# Altium schematic symbol library KOMM1 (лист1 и лист2).SchLib: 55 symbols
Pins are listed as number, name and electrical type; pins without a type are passive.

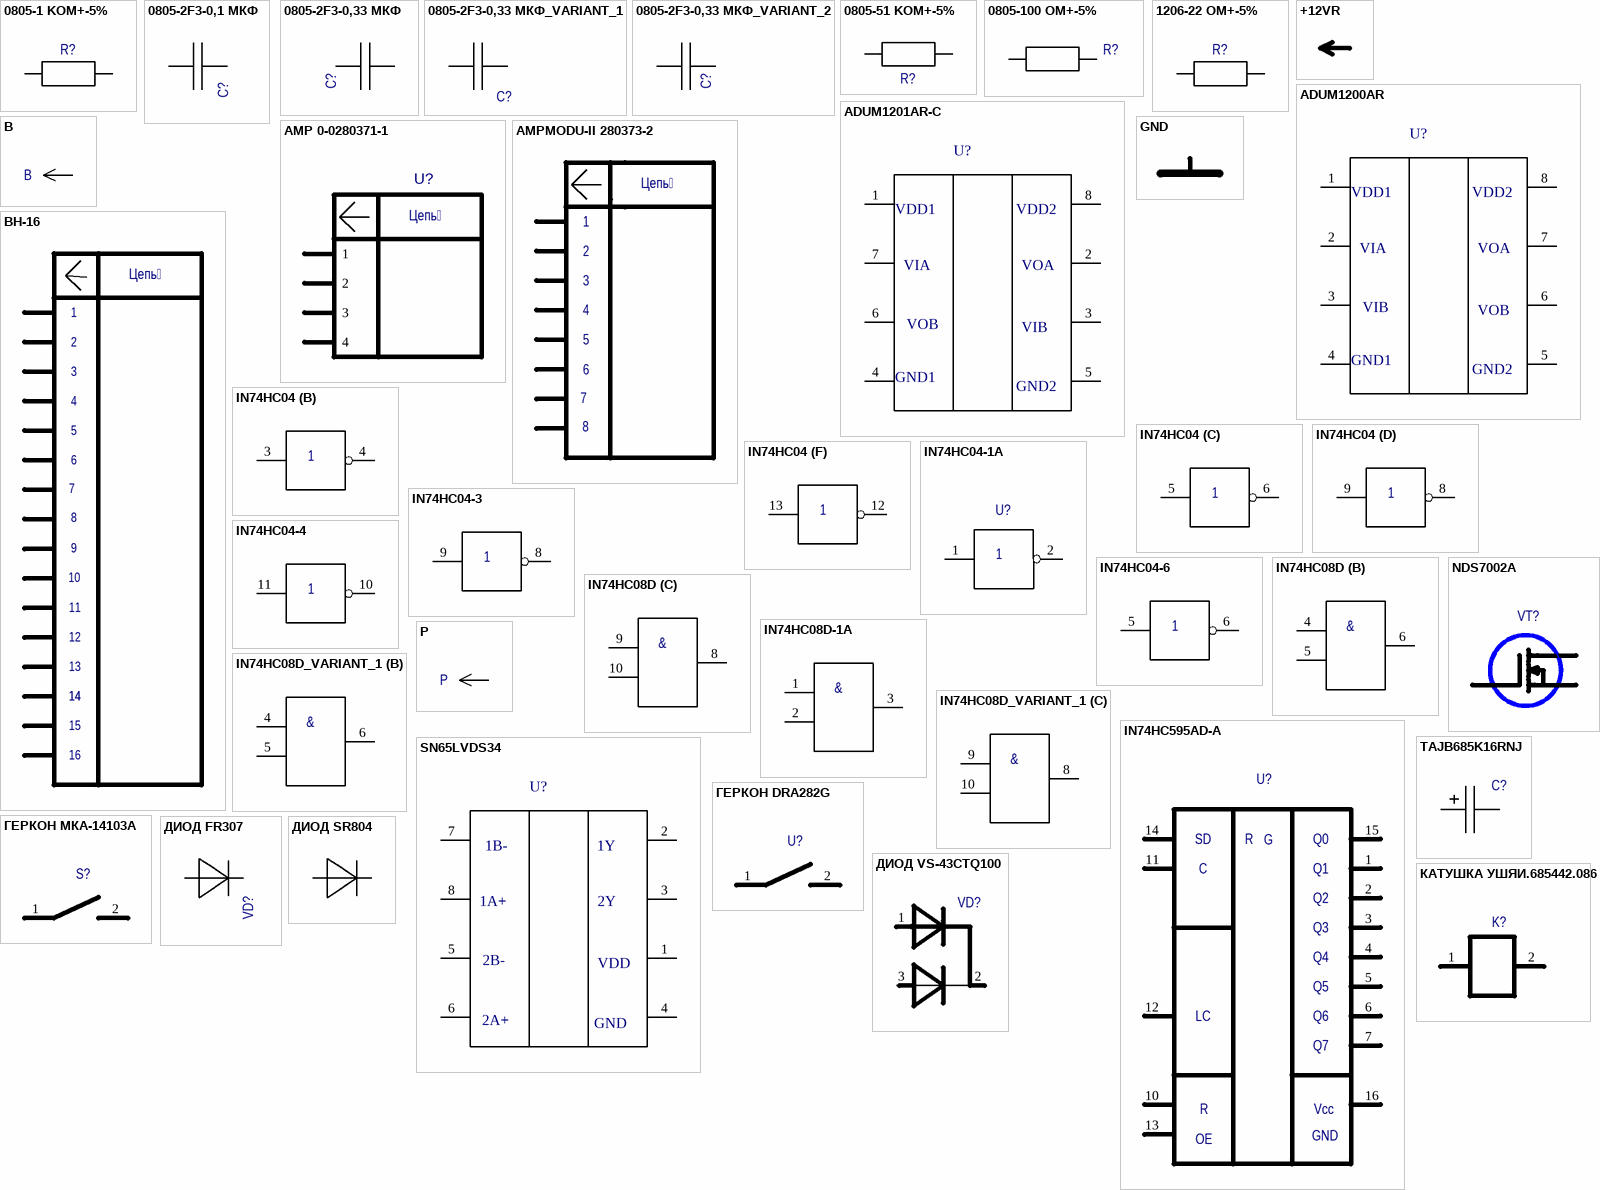
[diagram p0: symbols 0805-1 KОМ+-5% to КАТУШКА УШЯИ.685442.086]

## 0805-1 KОМ+-5%
designator R?  (value not drawn)
Value: *
footprint 0805
pins: 1, 2

## 0805-2F3-0,1 МКФ
designator C?  (value not drawn)
Value: *
footprint 0805
pins: 1, 2

## 0805-2F3-0,33 МКФ
designator C?  (value not drawn)
Value: *
footprint 0805
pins: 1, 2

## 0805-2F3-0,33 МКФ_VARIANT_1
designator C?, comment 0805-2F3-0,33 МКФ  (value not drawn)
0805-2F3-0,33 МКФ_VARIANT_1; Value: *
footprint 0805
pins: 1, 2

## 0805-2F3-0,33 МКФ_VARIANT_2
designator C?, comment 0805-2F3-0,33 МКФ  (value not drawn)
0805-2F3-0,33 МКФ_VARIANT_2; Value: *
footprint 0805
pins: 1, 2

## 0805-51 KОМ+-5%
designator R?  (value not drawn)
Value: *
footprint 0805
pins: 1, 2

## 0805-100 ОМ+-5%
designator R?  (value not drawn)
Value: *
footprint 0805
pins: 1, 2

## 1206-22 ОМ+-5%
designator R?  (value not drawn)
Value: *
footprint 1206
pins: 1, 2

## +12VR
designator PWR?  (value not drawn)
Value: *
pins: 1 +12VR (power)

## ADUM1200AR
designator U?  (value not drawn)
Value: *
pins: 1 0, 2, 3 2, 4 3, 5 4, 6 5, 7 6, 8 7
text: VDD1; VDD2; VIA; VOA; VIB; VOB; GND1; GND2

## ADUM1201AR-C
designator U?  (value not drawn)
Value: *
pins: 1 0, 2 6, 3 5, 4 3, 5 4, 6 2, 7 1, 8 7
text: VDD1; VDD2; VIA; VOA; VOB; VIB; GND1; GND2

## AMP 0-0280371-1
designator U?  (value not drawn)
Value: *
pins: 1, 2, 3, 4
text: Цепь

## AMPMODU-II 280373-2
designator XP?  (value not drawn)
Value: *
pins: 1, 2, 3, 4, 5, 6, 7, 8
text: Цепь

## B
designator U?
Value: *
pins: 1

## BH-16
designator XP?  (value not drawn)
Value: *
footprint BH-16
pins: 1, 2, 3, 4, 5, 6, 7, 8, 9, 10, 11, 12, 13, 14, 15, 16
text: Цепь

## GND
designator PWR?  (value not drawn)
Value: *
pins: 0 GND (power)

## IN74HC04
designator DD?  (value not drawn)
Value: *
footprint SO-14
part B pins: 3, 4
part C pins: 5, 6
part D pins: 8, 9
part F pins: 12, 13
part B text: 1
part C text: 1
part D text: 1
part F text: 1

## IN74HC04-1A
designator U?  (value not drawn)
Value: *
pins: 1, 2

## IN74HC04-3
designator U?  (value not drawn)
Value: *
pins: 8 4, 9 3
text: 1

## IN74HC04-4
designator U?  (value not drawn)
Value: *
pins: 10 4, 11 3
text: 1

## IN74HC04-6
designator U?  (value not drawn)
Value: *
pins: 5 3, 6 4
text: 1

## IN74HC08D
designator DD?  (value not drawn)
Value: *
footprint SO-14
part B pins: 4, 5, 6
part C pins: 8, 9, 10
part B text: &
part C text: &

## IN74HC08D-1A
designator U?  (value not drawn)
Value: *
pins: 1, 2, 3
text: &

## IN74HC08D_VARIANT_1
designator DD?, comment IN74HC08D  (value not drawn)
IN74HC08D_VARIANT_1; Value: *
footprint SO-14
part B pins: 4, 5, 6
part C pins: 8, 9, 10
part B text: &
part C text: &

## IN74HC595AD-A
designator U?  (value not drawn)
Value: *
pins: 1 Q1, 2 Q2, 3 Q4, 4 Q4, 5 Q5, 6 Q6, 7 Q7, 10, 11 C, 12 LC, 13, 14 SD, 15 Q0, 16
text: R; G; Q3; Vcc; OE; GND

## NDS7002A
designator VT?  (value not drawn)
Value: *
footprint SOT-23
pins: B 0, E 1, K 2

## P
designator U?
Value: *
pins: 1

## SN65LVDS34
designator U?  (value not drawn)
Value: *
pins: 1 5, 2 7, 3 6, 4, 5 2, 6 3, 7 0, 8 1
text: 1B-; 1Y; 1A+; 2Y; 2B-; VDD; 2A+; GND

## TAJB685K16RNJ
designator C?  (value not drawn)
Value: *
footprint TANT_B
pins: 1, 2

## ГЕРКОН DRA282G
designator U?  (value not drawn)
Value: *
pins: 1, 2

## ГЕРКОН МКА-14103А
designator S?  (value not drawn)
Value: *
pins: 1, 2

## ДИОД FR307
designator VD?  (value not drawn)
Value: *
pins: 1, 2

## ДИОД SR804
designator VD?  (value not drawn)
Value: *
pins: 1 +, 2 -

## ДИОД VS-43CTQ100
designator VD?  (value not drawn)
Value: *
pins: 1, 2, 3

## КАТУШКА УШЯИ.685442.086
designator K?  (value not drawn)
Value: *
pins: 1, 2

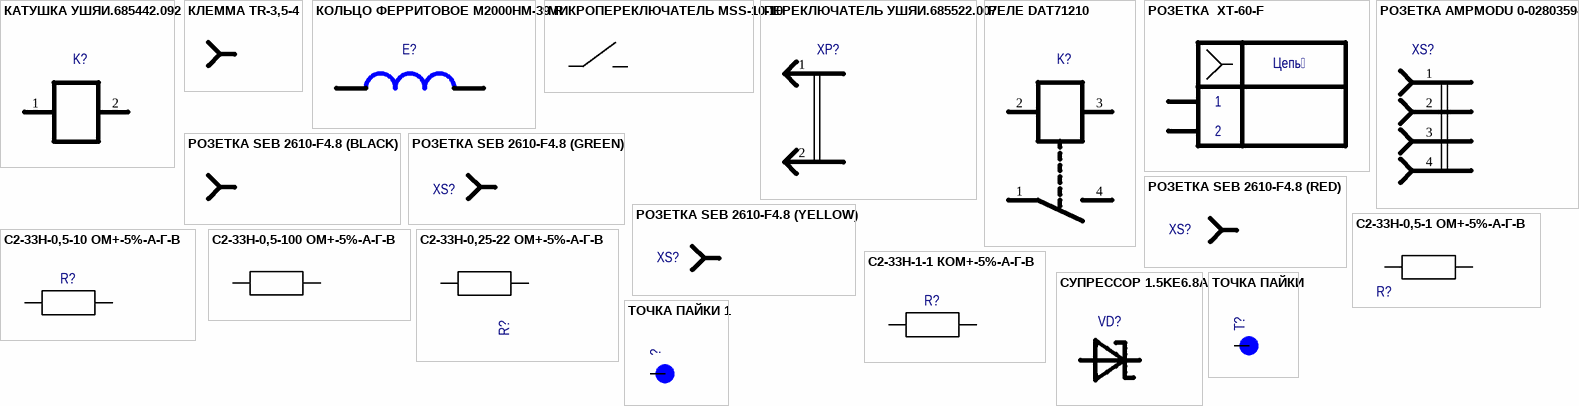
[diagram p1: symbols КАТУШКА УШЯИ.685442.092 to ТОЧКА ПАЙКИ 1]

## КАТУШКА УШЯИ.685442.092
designator K?  (value not drawn)
Value: *
pins: 1, 2

## КЛЕММА TR-3,5-4
designator X?  (value not drawn)
Value: *
pins: 1 0

## КОЛЬЦО ФЕРРИТОВОЕ M2000HM-39 R
designator E?  (value not drawn)
Value: *
pins: 1, 2

## МИКРОПЕРЕКЛЮЧАТЕЛЬ MSS-10-10
designator S?  (value not drawn)
Value: *
pins: 1 2, 2 1

## ПЕРЕКЛЮЧАТЕЛЬ УШЯИ.685522.007
designator XP?  (value not drawn)
Value: *
pins: 1, 2

## РЕЛЕ DAT71210
designator K?  (value not drawn)
Value: *
pins: 1 3, 2 1, 3 2, 4

## РОЗЕТКА  XT-60-F
designator XS?  (value not drawn)
Value: *
pins: 1, 2
text: Цепь

## РОЗЕТКА AMPMODU 0-0280359-0
designator XS?  (value not drawn)
Value: *
pins: 1, 2, 3, 4

## РОЗЕТКА SEB 2610-F4.8 (BLACK)
designator XS?  (value not drawn)
Value: *
pins: 1 0

## РОЗЕТКА SEB 2610-F4.8 (GREEN)
designator XS?  (value not drawn)
Value: *
pins: 1 0

## РОЗЕТКА SEB 2610-F4.8 (RED)
designator XS?  (value not drawn)
Value: *
pins: 1 0

## РОЗЕТКА SEB 2610-F4.8 (YELLOW)
designator XS?  (value not drawn)
Value: *
pins: 1 0

## С2-33Н-0,5-1 ОМ+-5%-А-Г-В
designator R?  (value not drawn)
Value: *
footprint C2-33-0,5
pins: 1, 2

## С2-33Н-0,5-10 ОМ+-5%-А-Г-В
designator R?  (value not drawn)
Value: *
footprint C2-33-0,5
pins: 1, 2

## С2-33Н-0,5-100 ОМ+-5%-А-Г-В
designator R?  (value not drawn)
Value: *
pins: 1, 2

## С2-33Н-0,25-22 ОМ+-5%-А-Г-В
designator R?  (value not drawn)
Value: *
footprint C2-33-0,25
pins: 1 A, 2 A

## С2-33Н-1-1 КОМ+-5%-А-Г-В
designator R?  (value not drawn)
Value: *
footprint C2-33-1
pins: 1, 2

## СУПРЕССОР 1.5KE6.8A
designator VD?  (value not drawn)
Value: *
pins: 1 -, 2 +

## ТОЧКА ПАЙКИ
designator T?  (value not drawn)
Value: *
footprint LEPESTOK7_750_224
pins: 1

## ТОЧКА ПАЙКИ 1
designator  ?  (value not drawn)
Value: *
footprint LEPESTOK7_750_224
pins: 1